# Altium integrated library Light Pipe.IntLib: 5 symbols
Pins are listed as number, name and electrical type; pins without a type are passive.

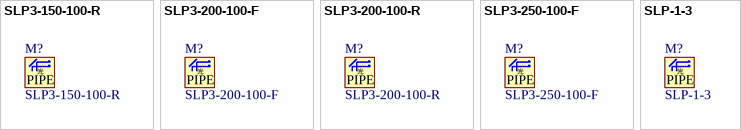
[diagram p0: symbols SLP3-150-100-R to SLP-1-3]

## SLP3-150-100-R
designator M?
LIGHT PIPE CLEAR 3MM LENS R/A; Manufacturer: Bivar Inc.; Configuration: Single; Lens Style/Size: Round with Domed Top, 3mm; Part Number: SLP3-150-100-R; PartId: 9827; Supplier 1: Digi-Key; Supplier Part Number 1: 492-1313-ND; ComponentLink1Description: Datasheet; ComponentLink1URL: http://www.bivar.com/portals/0/products/SLP3-150-XXX-X.pdf; ComponentLink2Description: Digi-Key Listing; ComponentLink2URL: http://www.digikey.com/product-detail/en/bivar-inc/SLP3-150-100-R/492-1313-ND/2407223; Price: 0.53; Type: Rigid; Series: SLP-3; Mounting Type: Board Mount, Press Fit, Right Angle; Colour: Clear
footprint BIVAR SLP3-150-100-R
text: 光; PIPE

## SLP3-200-100-F
designator M?
LIGHT PIPE 3MM RIGID RA RND SMD; Manufacturer: Bivar Inc.; Configuration: Single; Lens Style/Size: Round with Flat Top, 3mm; Part Number: SLP3-200-100-F; PartId: 9829; Supplier 1: Digi-Key; Supplier Part Number 1: 492-1865-ND; ComponentLink1Description: Datasheet; ComponentLink1URL: http://www.bivar.com/portals/0/products/SLP3-XXX-XXX-X.pdf; ComponentLink2Description: Digi-Key Listing; ComponentLink2URL: http://www.digikey.com/product-detail/en/bivar-inc/SLP3-200-100-F/492-1865-ND/1216327; Price: 0.53; Type: Rigid; Series: SLP-3; Mounting Type: Board Mount, Press Fit, Right Angle; Colour: Clear
footprint BIVAR SLP3-200-100-F
text: 光; PIPE

## SLP3-200-100-R
designator M?
LIGHT PIPE CLEAR 3MM LENS R/A; Manufacturer: Bivar Inc.; Configuration: Single; Lens Style/Size: Round with Domed Top, 3mm; Part Number: SLP3-200-100-R; PartId: 9828; Supplier 1: Digi-Key; Supplier Part Number 1: 492-1312-ND; ComponentLink1Description: Datasheet; ComponentLink1URL: http://www.bivar.com/portals/0/products/SLP3-XXX-XXX-X.pdf; ComponentLink2Description: Digi-Key Listing; ComponentLink2URL: http://www.digikey.com/product-detail/en/bivar-inc/SLP3-200-100-R/492-1312-ND/2407222; Price: 0.53; Type: Rigid; Series: SLP-3; Mounting Type: Board Mount, Press Fit, Right Angle; Colour: Clear
footprint BIVAR SLP3-200-100-R
text: 光; PIPE

## SLP3-250-100-F
designator M?
LIGHT PIPE CLEAR 3MM LENS R/A; Manufacturer: Bivar Inc.; Configuration: Single; Lens Style/Size: Round with Flat Top, 3mm; Part Number: SLP3-250-100-F; PartId: 9830; Supplier 1: Digi-Key; Supplier Part Number 1: 492-1311-ND; ComponentLink1Description: Datasheet; ComponentLink1URL: http://www.bivar.com/portals/0/products/SLP3-XXX-XXX-X.pdf; ComponentLink2Description: Digi-Key Listing; ComponentLink2URL: http://www.digikey.com/product-detail/en/bivar-inc/SLP3-250-100-F/492-1311-ND/2407221; Price: 0.53; Type: Rigid; Series: SLP-3; Mounting Type: Board Mount, Press Fit, Right Angle; Colour: Clear
footprint BIVAR SLP3-250-100-F
text: 光; PIPE

## SLP-1-3
designator M?
LIGHT PIPE CLEAR 3MM LENS R/A; Manufacturer: Bivar Inc.; Configuration: Single; Lens Style/Size: Round with Flat Top, 3mm; Part Number: SLP-1-3; PartId: 9826; Supplier 1: Digi-Key; Supplier Part Number 1: 492-1315-ND; ComponentLink1Description: Datasheet; ComponentLink1URL: http://www.bivar.com/portals/0/products/SLP-1-3.pdf; ComponentLink2Description: Digi-Key Listing; ComponentLink2URL: http://www.digikey.com/product-detail/en/bivar-inc/SLP-1-3/492-1315-ND/2407225; Price: 0.98; Type: Rigid; Series: -; Mounting Type: Board Mount, Press Fit, Right Angle; Colour: Clear
footprint BIVAR SLP-1-3
text: 光; PIPE